# Altium integrated library WE-PBF Flat Wire High Current SMD Ferrite Bead.IntLib: 6 symbols
Pins are listed as number, name and electrical type; pins without a type are passive.

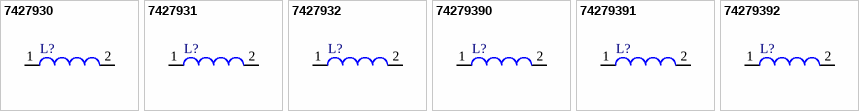
[diagram p0: symbols 7427930 to 74279392]

## 7427930
designator L?
SMD Power Bead Ferrite WE-PBF, Z = 42 Ohm; PartNumber: 7427930; Impedance: 42 Ohm; DatasheetVersion: ver 4, Oct-2007; PackageReference: PBF-7427930; PackageDescription: Molded Inductor, 2-Leads, Body 4.0 x 3.0 mm; ComponentLink1Description: Manufacturer URL; ComponentLink1URL: http://www.we-online.com; ComponentLink2Description: Datasheet; ComponentLink2URL: http://www.we-online.de/katalog/media/pdf/7427930.pdf
footprint PBF-7427930 (Molded Inductor, 2-Leads, Body 4.0x3.0x2.7 mm)
pins: 1, 2

## 7427931
designator L?
SMD Power Bead Ferrite WE-PBF, Z = 91 Ohm; PartNumber: 7427931; Impedance: 91 Ohm; DatasheetVersion: ver 4, Oct-2007; PackageReference: PBF-7427931; PackageDescription: Molded Inductor, 2-Leads, Body 8.5 x 3.0 mm; ComponentLink1Description: Manufacturer URL; ComponentLink1URL: http://www.we-online.com; ComponentLink2Description: Datasheet; ComponentLink2URL: http://www.we-online.de/katalog/media/pdf/7427931.pdf
footprint PBF-7427931 (Molded Inductor, 2-Leads, Body 8.5x3.0x2.7 mm)
pins: 1, 2

## 7427932
designator L?
SMD Power Bead Ferrite WE-PBF, Z = 98 Ohm; PartNumber: 7427932; Impedance: 98 Ohm; DatasheetVersion: ver 4, Oct-2007; PackageReference: PBF-7427932; PackageDescription: Molded Inductor, 2-Leads, Body 7.8 x 4.75 mm; ComponentLink1Description: Manufacturer URL; ComponentLink1URL: http://www.we-online.com; ComponentLink2Description: Datasheet; ComponentLink2URL: http://www.we-online.de/katalog/media/pdf/7427932.pdf
footprint PBF-7427932 (Molded Inductor, 2-Leads, Body 7.8x4.75x3.15 mm)
pins: 1, 2

## 74279390
designator L?
SMD Power Bead Ferrite WE-PBF, Z = 42 Ohm, glued version; PartNumber: 74279390; Impedance: 42 Ohm; DatasheetVersion: ver 4, Oct-2007; PackageReference: PBF-7427930; PackageDescription: Molded Inductor, 2-Leads, Body 4.0 x 3.0 mm; ComponentLink1Description: Manufacturer URL; ComponentLink1URL: http://www.we-online.com; ComponentLink2Description: Datasheet; ComponentLink2URL: http://www.we-online.de/katalog/media/pdf/74279390.pdf
footprint PBF-7427930 (Molded Inductor, 2-Leads, Body 4.0x3.0x2.7 mm)
pins: 1, 2

## 74279391
designator L?
SMD Power Bead Ferrite WE-PBF, Z = 91 Ohm, glued version; PartNumber: 74279391; Impedance: 91 Ohm; DatasheetVersion: ver 4, Oct-2007; PackageReference: PBF-7427931; PackageDescription: Molded Inductor, 2-Leads, Body 8.5 x 3.0 mm; ComponentLink1Description: Manufacturer URL; ComponentLink1URL: http://www.we-online.com; ComponentLink2Description: Datasheet; ComponentLink2URL: http://www.we-online.de/katalog/media/pdf/74279391.pdf
footprint PBF-7427931 (Molded Inductor, 2-Leads, Body 8.5x3.0x2.7 mm)
pins: 1, 2

## 74279392
designator L?
SMD Power Bead Ferrite WE-PBF, Z = 98 Ohm; PartNumber: 74279392; Impedance: 98 Ohm; DatasheetVersion: ver 4, Oct-2007; PackageReference: PBF-7427932; PackageDescription: Molded Inductor, 2-Leads, Body 7.8 x 4.75 mm; ComponentLink1Description: Manufacturer URL; ComponentLink1URL: http://www.we-online.com; ComponentLink2Description: Datasheet; ComponentLink2URL: http://www.we-online.de/katalog/media/pdf/74279392.pdf
footprint PBF-7427932 (Molded Inductor, 2-Leads, Body 7.8x4.75x3.15 mm)
pins: 1, 2